# EAGLE library part ME3116AM6G (library pimoroni-ics)
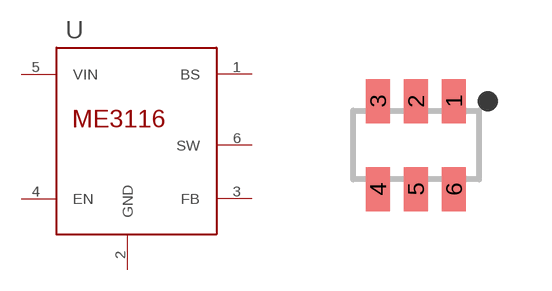
[diagram p157: symbol with the pads of SOT-23-6; footprint SOT-23-6]

Designator prefix U

## ME3116AM6G  [SOT-23-6]
1  BS
2  GND
3  FB
4  EN
5  VIN
6  SW

## Footprint SOT-23-6 (pad centres in mm)
smd 0.6 x 1.1: 1 0.95,1.1; 2 0,1.1; 3 -0.95,1.1; 4 -0.95,-1.1; 5 0,-1.1; 6 0.95,-1.1